# EAGLE library part NXQ1TXH5 (library Nexperia)
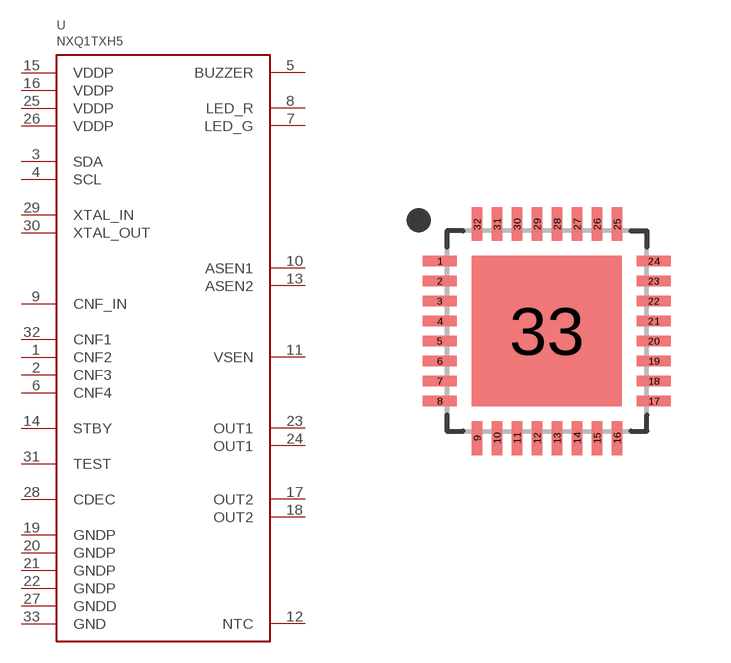
[diagram p0: symbol with the pads of QFN32; footprint QFN32]

Designator prefix U

## NXQ1TXH5  [QFN32]
1  CNF2
2  CNF3
3  SDA
4  SCL
5  BUZZER
6  CNF4
7  LED_G
8  LED_R
9  CNF_IN
10  ASEN1
11  VSEN
12  NTC
13  ASEN2
14  STBY
15  VDDP
16  VDDP
17  OUT2
18  OUT2
19  GNDP
20  GNDP
21  GNDP
22  GNDP
23  OUT1
24  OUT1
25  VDDP
26  VDDP
27  GNDD
28  CDEC
29  XTAL_IN
30  XTAL_OUT
31  TEST
32  CNF1
33  GND

## Footprint QFN32 (pad centres in mm)
smd 0.85 x 0.27: 1 -2.675,1.75; 2 -2.675,1.25; 3 -2.675,0.75; 4 -2.675,0.25; 5 -2.675,-0.25; 6 -2.675,-0.75; 7 -2.675,-1.25; 8 -2.675,-1.75; 17 2.675,-1.75; 18 2.675,-1.25; 19 2.675,-0.75; 20 2.675,-0.25; 21 2.675,0.25; 22 2.675,0.75; 23 2.675,1.25; 24 2.675,1.75
smd 0.27 x 0.85: 9 -1.75,-2.675; 10 -1.25,-2.675; 11 -0.75,-2.675; 12 -0.25,-2.675; 13 0.25,-2.675; 14 0.75,-2.675; 15 1.25,-2.675; 16 1.75,-2.675; 25 1.75,2.675; 26 1.25,2.675; 27 0.75,2.675; 28 0.25,2.675; 29 -0.25,2.675; 30 -0.75,2.675; 31 -1.25,2.675; 32 -1.75,2.675
smd 3.75 x 3.75: 33 0,0